# Altium integrated library CD4066BE.IntLib: 1 symbol
Pins are listed as number, name and electrical type; pins without a type are passive.

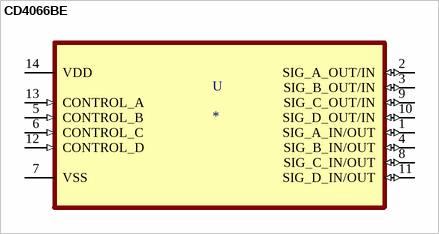
[diagram p0: symbol CD4066BE]

## CD4066BE
designator U
Bilateral, FET Switches 1 x 1:1 14-PDIP; MF: Texas Instruments; MP: CD4066BE; SnapEDA_Link: https://www.snapeda.com/parts/CD4066BE/Texas%20Instruments/view-part/2771603/?ref=snap; Price: None; Availability: Unavailable; Package: PDIP-14 RCA; Value: *
footprint DIP254P762X508-14
pins: 1 SIG_A_IN/OUT (io), 2 SIG_A_OUT/IN (io), 3 SIG_B_OUT/IN (io), 4 SIG_B_IN/OUT (io), 5 CONTROL_B (in), 6 CONTROL_C (in), 7 VSS, 8 SIG_C_IN/OUT (io), 9 SIG_C_OUT/IN (io), 10 SIG_D_OUT/IN (io), 11 SIG_D_IN/OUT (io), 12 CONTROL_D (in), 13 CONTROL_A (in), 14 VDD (power)